# Altium footprint library COMM_SCHPCB.PcbLib: 125 footprints (part 7 of 8)
Each footprint in its own frame and in the unit in brackets; x right, y up, seen from the top. Pads: shape width x height; smd on the part's side, far side on the other; paste and mask are expansions set on the pad; w line width, h text height; cw(c..) or ccw(c..) is an arc to the next point about the centre after c.
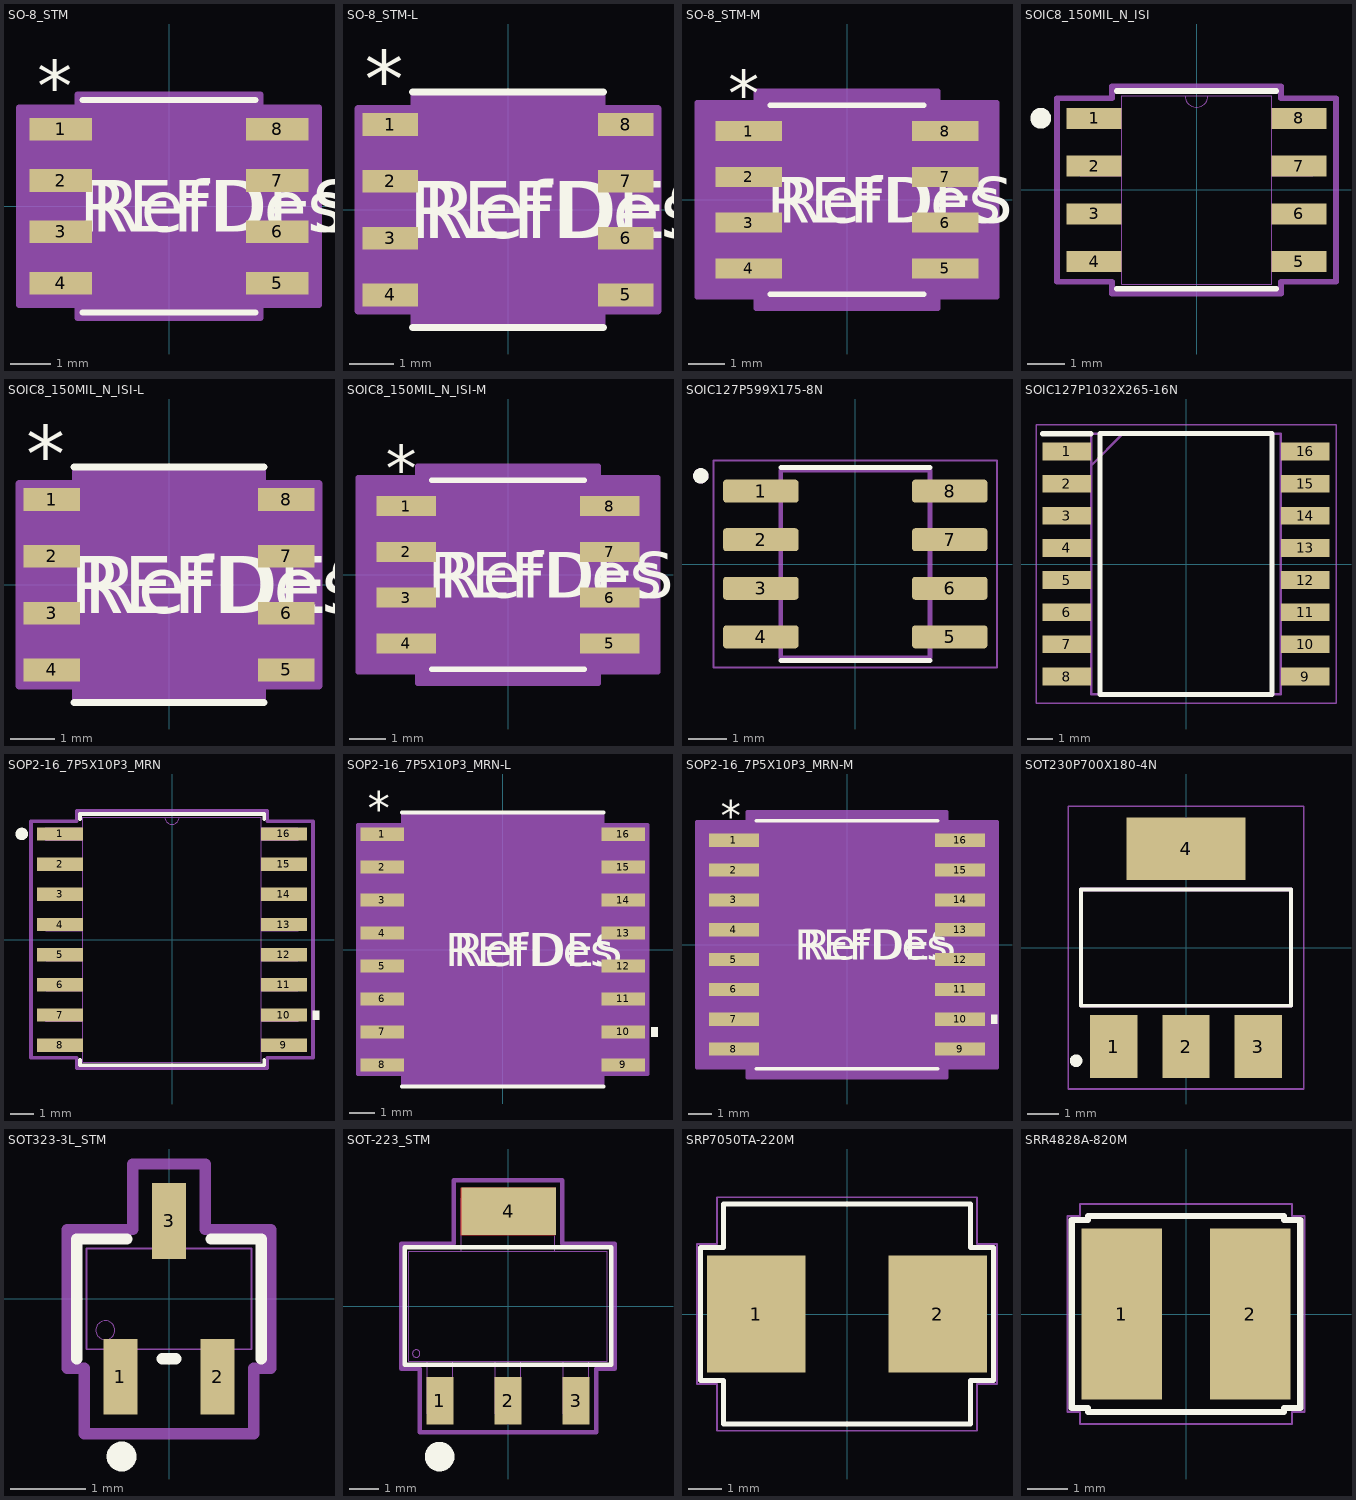
[diagram p6: the footprints below, top view; thin cyan lines are the x and y axes]

## SO-8_STM [mil]
pads (8):
  rect 61x22 smd paste+0 mask+0: 1(-105.5,75) 2(-105.5,25) 3(-105.5,-25) 4(-105.5,-75) 5(105.5,-75) 6(105.5,-25) 7(105.5,25) 8(105.5,75)
Top Overlay:
  lines w6: -84,-103.5 84,-103.5 ; -84,103.5 84,103.5
  text "RefDes" at -75,-25 h50
  text "*" at -128,92 h50
  text "REFDES" at -87.5,-25 h50
Mechanical 13:
  lines w0: -12,98.5 ccw(c0,98.5) 12,98.5
  lines w1: -122,-85 -79,-85 -79,-65 -122,-65 -122,-85 ; -122,-35 -79,-35 -79,-15 -122,-15 -122,-35 ; -122,15 -79,15 -79,35 -122,35 -122,15 ; -122,65 -79,65 -79,85 -122,85 -122,65 ; -79,-98.5 -79,98.5 79,98.5 79,-98.5 -79,-98.5 ; 79,-85 122,-85 122,-65 79,-65 79,-85 ; 79,-35 122,-35 122,-15 79,-15 79,-35 ; 79,15 122,15 122,35 79,35 79,15 ; 79,65 122,65 122,85 79,85 79,65
  text "RefDes2" at -87.5,-25 h50
  text "*" at -76.5,45.5 h50
Mechanical 15:
  region: -89,-96 -146,-96 -146,96 -89,96 -89,108.5 89,108.5 89,96 146,96 146,-96 89,-96 89,-108.5 -89,-108.5
  lines w6: -146,-96 -89,-96 -89,-108.5 89,-108.5 89,-96 146,-96 146,96 89,96 89,108.5 -89,108.5 -89,96 -146,96 -146,-96
3D body "SO-8_STM.step": height 69.09, standoff 0, extent -122.01,-98.5 122.01,98.5

## SO-8_STM-L [mil]
pads (8):
  rect 49x20 smd paste+0 mask+0: 1(-103.5,75) 2(-103.5,25) 3(-103.5,-25) 4(-103.5,-75) 5(103.5,-75) 6(103.5,-25) 7(103.5,25) 8(103.5,75)
Top Overlay:
  lines w6: -84,-103.5 84,-103.5 ; -84,103.5 84,103.5
  text "RefDes" at -75,-25 h50
  text "*" at -126,90 h50
  text "REFDES" at -87.5,-25 h50
Mechanical 13:
  lines w0: -12,98.5 ccw(c0,98.5) 12,98.5
  lines w1: -122,-85 -79,-85 -79,-65 -122,-65 -122,-85 ; -122,-35 -79,-35 -79,-15 -122,-15 -122,-35 ; -122,15 -79,15 -79,35 -122,35 -122,15 ; -122,65 -79,65 -79,85 -122,85 -122,65 ; -79,-98.5 -79,98.5 79,98.5 79,-98.5 -79,-98.5 ; 79,-85 122,-85 122,-65 79,-65 79,-85 ; 79,-35 122,-35 122,-15 79,-15 79,-35 ; 79,15 122,15 122,35 79,35 79,15 ; 79,65 122,65 122,85 79,85 79,65
  text "RefDes2" at -87.5,-25 h50
  text "*" at -76.5,45.5 h50
Mechanical 15:
  region: -83,-89 -132,-89 -132,89 -83,89 -83,102.5 83,102.5 83,89 132,89 132,-89 83,-89 83,-102.5 -83,-102.5
  lines w6: -132,-89 -83,-89 -83,-102.5 83,-102.5 83,-89 132,-89 132,89 83,89 83,102.5 -83,102.5 -83,89 -132,89 -132,-89
3D body "SO-8_STM.step": height 69.09, standoff 0, extent -122.01,-98.5 122.01,98.5

## SO-8_STM-M [mil]
pads (8):
  rect 73x22 smd paste+0 mask+0: 1(-107.5,75) 2(-107.5,25) 3(-107.5,-25) 4(-107.5,-75) 5(107.5,-75) 6(107.5,-25) 7(107.5,25) 8(107.5,75)
Top Overlay:
  lines w6: -84,-103.5 84,-103.5 ; -84,103.5 84,103.5
  text "RefDes" at -75,-25 h50
  text "*" at -130,92 h50
  text "REFDES" at -87.5,-25 h50
Mechanical 13:
  lines w0: -12,98.5 ccw(c0,98.5) 12,98.5
  lines w1: -122,-85 -79,-85 -79,-65 -122,-65 -122,-85 ; -122,-35 -79,-35 -79,-15 -122,-15 -122,-35 ; -122,15 -79,15 -79,35 -122,35 -122,15 ; -122,65 -79,65 -79,85 -122,85 -122,65 ; -79,-98.5 -79,98.5 79,98.5 79,-98.5 -79,-98.5 ; 79,-85 122,-85 122,-65 79,-65 79,-85 ; 79,-35 122,-35 122,-15 79,-15 79,-35 ; 79,15 122,15 122,35 79,35 79,15 ; 79,65 122,65 122,85 79,85 79,65
  text "RefDes2" at -87.5,-25 h50
  text "*" at -76.5,45.5 h50
Mechanical 15:
  region: -99,-106 -164,-106 -164,106 -99,106 -99,118.5 99,118.5 99,106 164,106 164,-106 99,-106 99,-118.5 -99,-118.5
  lines w6: -164,-106 -99,-106 -99,-118.5 99,-118.5 99,-106 164,-106 164,106 99,106 99,118.5 -99,118.5 -99,106 -164,106 -164,-106
3D body "SO-8_STM.step": height 69.09, standoff 0, extent -122.01,-98.5 122.01,98.5

## SOIC8_150MIL_N_ISI [mil]
pads (8):
  rect 57.5x22 smd paste+0 mask+0: 1(-107.25,75) 2(-107.25,25) 3(-107.25,-25) 4(-107.25,-75) 5(107.25,-75) 6(107.25,-25) 7(107.25,25) 8(107.25,75)
Top Overlay:
  circle w11.81: c-163,75 r5
  lines w6: -83.5,-103.5 83.5,-103.5 ; -83.5,103.5 83.5,103.5
Mechanical 13:
  lines w0: -12,98.5 ccw(c0,98.5) 12,98.5
  lines w1: -122,-85 -122,-65 -78.5,-65 -78.5,-85 -122,-85 ; -122,-35 -122,-15 -78.5,-15 -78.5,-35 -122,-35 ; -122,15 -122,35 -78.5,35 -78.5,15 -122,15 ; -122,65 -122,85 -78.5,85 -78.5,65 -122,65 ; -78.5,-98.5 78.5,-98.5 78.5,98.5 -78.5,98.5 -78.5,-98.5 ; 78.5,-85 78.5,-65 122,-65 122,-85 78.5,-85 ; 78.5,-35 78.5,-15 122,-15 122,-35 78.5,-35 ; 78.5,15 78.5,35 122,35 122,15 78.5,15 ; 78.5,65 78.5,85 122,85 122,65 78.5,65
Mechanical 15:
  lines w6: -146,-96 -146,96 -88.5,96 -88.5,108.5 88.5,108.5 88.5,96 146,96 146,-96 88.5,-96 88.5,-108.5 -88.5,-108.5 -88.5,-96 -146,-96
3D body "SOIC8_150MIL_N_ISI.step": height 69.09, standoff 0, extent -122.01,-98.5 122.01,98.5

## SOIC8_150MIL_N_ISI-L [mil]
pads (8):
  rect 49.5x20 smd paste+0 mask+0: 1(-103.25,75) 2(-103.25,25) 3(-103.25,-25) 4(-103.25,-75) 5(103.25,-75) 6(103.25,-25) 7(103.25,25) 8(103.25,75)
Top Overlay:
  lines w6: -83.5,-103.5 83.5,-103.5 ; -83.5,103.5 83.5,103.5
  text "RefDes" at -75,-25 h50
  text "*" at -125.75,90 h50
  text "REFDES" at -87.5,-25 h50
Mechanical 13:
  lines w0: -12,98.5 ccw(c0,98.5) 12,98.5
  lines w1: -122,-85 -78.5,-85 -78.5,-65 -122,-65 -122,-85 ; -122,-35 -78.5,-35 -78.5,-15 -122,-15 -122,-35 ; -122,15 -78.5,15 -78.5,35 -122,35 -122,15 ; -122,65 -78.5,65 -78.5,85 -122,85 -122,65 ; -78.5,-98.5 -78.5,98.5 78.5,98.5 78.5,-98.5 -78.5,-98.5 ; 78.5,-85 122,-85 122,-65 78.5,-65 78.5,-85 ; 78.5,-35 122,-35 122,-15 78.5,-15 78.5,-35 ; 78.5,15 122,15 122,35 78.5,35 78.5,15 ; 78.5,65 122,65 122,85 78.5,85 78.5,65
  text "RefDes2" at -87.5,-25 h50
  text "*" at -76,45.5 h50
Mechanical 15:
  region: -82.5,-89 -132,-89 -132,89 -82.5,89 -82.5,102.5 82.5,102.5 82.5,89 132,89 132,-89 82.5,-89 82.5,-102.5 -82.5,-102.5
  lines w6: -132,-89 -82.5,-89 -82.5,-102.5 82.5,-102.5 82.5,-89 132,-89 132,89 82.5,89 82.5,102.5 -82.5,102.5 -82.5,89 -132,89 -132,-89
3D body "SOIC8_150MIL_N_ISI.step": height 69.09, standoff 0, extent -122.01,-98.5 122.01,98.5

## SOIC8_150MIL_N_ISI-M [mil]
pads (8):
  rect 65.5x22 smd paste+0 mask+0: 1(-111.25,75) 2(-111.25,25) 3(-111.25,-25) 4(-111.25,-75) 5(111.25,-75) 6(111.25,-25) 7(111.25,25) 8(111.25,75)
Top Overlay:
  lines w6: -83.5,-103.5 83.5,-103.5 ; -83.5,103.5 83.5,103.5
  text "REFDES" at -87.5,-25 h50
  text "*" at -133.75,92 h50
  text "RefDes" at -75,-25 h50
Mechanical 13:
  lines w0: -12,98.5 ccw(c0,98.5) 12,98.5
  lines w1: -122,-85 -122,-65 -78.5,-65 -78.5,-85 -122,-85 ; -122,-35 -122,-15 -78.5,-15 -78.5,-35 -122,-35 ; -122,15 -122,35 -78.5,35 -78.5,15 -122,15 ; -122,65 -122,85 -78.5,85 -78.5,65 -122,65 ; -78.5,-98.5 78.5,-98.5 78.5,98.5 -78.5,98.5 -78.5,-98.5 ; 78.5,-85 78.5,-65 122,-65 122,-85 78.5,-85 ; 78.5,-35 78.5,-15 122,-15 122,-35 78.5,-35 ; 78.5,15 78.5,35 122,35 122,15 78.5,15 ; 78.5,65 78.5,85 122,85 122,65 78.5,65
  text "*" at -76,45.5 h50
  text "RefDes2" at -87.5,-25 h50
Mechanical 15:
  region: -98.5,-106 -164,-106 -164,106 -98.5,106 -98.5,118.5 98.5,118.5 98.5,106 164,106 164,-106 98.5,-106 98.5,-118.5 -98.5,-118.5
  lines w6: -164,-106 -164,106 -98.5,106 -98.5,118.5 98.5,118.5 98.5,106 164,106 164,-106 98.5,-106 98.5,-118.5 -98.5,-118.5 -98.5,-106 -164,-106
3D body "SOIC8_150MIL_N_ISI.step": height 69.09, standoff 0, extent -122.01,-98.5 122.01,98.5

## SOIC127P599X175-8N [mm] "SN65HVD230DR"
pads (8):
  rrect25% 1.97x0.6 smd: 1(-2.47,1.905) 2(-2.47,0.635) 3(-2.47,-0.635) 4(-2.47,-1.905) 5(2.47,-1.905) 6(2.47,-0.635) 7(2.47,0.635) 8(2.47,1.905)
Top Overlay:
  circle w0.2: c-4.04,2.305 r0.1
  lines w0.127: -1.95,-2.525 1.95,-2.525 ; -1.95,2.525 1.95,2.525
Mechanical 13:
  circle w0.2: c-4.04,2.305 r0.1
  lines w0.127: -1.95,-2.452 -1.95,2.452 1.95,2.452 1.95,-2.452 -1.95,-2.452
Mechanical 15:
  lines w0.05: -3.705,-2.702 -3.705,2.702 3.705,2.702 3.705,-2.702 -3.705,-2.702
3D body "step_temp.STEP": height 1.75, standoff 0, extent -3,-2.45 3,2.45

## SOIC127P1032X265-16N [mm]
pads (16):
  rect 1.925x0.7 smd: 1(-4.712,4.445) 2(-4.712,3.175) 3(-4.712,1.905) 4(-4.712,0.635) 5(-4.712,-0.635) 6(-4.712,-1.905) 7(-4.712,-3.175) 8(-4.712,-4.445) 9(4.712,-4.445) 10(4.712,-3.175) 11(4.712,-1.905) 12(4.712,-0.635) 13(4.712,0.635) 14(4.712,1.905) 15(4.712,3.175) 16(4.712,4.445)
Top Overlay:
  lines w0.2: -5.675,5.145 -3.75,5.145 ; -3.4,-5.15 -3.4,5.15 3.4,5.15 3.4,-5.15 -3.4,-5.15
Mechanical 15:
  lines w0.1: -3.75,3.88 -2.48,5.15 ; -3.75,-5.15 -3.75,5.15 3.75,5.15 3.75,-5.15 -3.75,-5.15
Mechanical 20:
  lines w0.05: -5.925,-5.5 -5.925,5.5 5.925,5.5 5.925,-5.5 -5.925,-5.5

## SOP2-16_7P5X10P3_MRN [mil]
pads (16):
  rect 76x22 smd paste+0 mask+0: 1(-185.5,175) 2(-185.5,125) 3(-185.5,75) 4(-185.5,25) 5(-185.5,-25) 6(-185.5,-75) 7(-185.5,-125) 8(-185.5,-175) 9(185.5,-175) 10(185.5,-125) 11(185.5,-75) 12(185.5,-25) 13(185.5,25) 14(185.5,75) 15(185.5,125) 16(185.5,175)
Top Overlay:
  circle w11.81: c-249,175 r4.47
  region: 233.5,-117.5 243.5,-117.5 243.5,-132.5 233.5,-132.5
  lines w6: -152.5,-199.1 -152.5,-208 152.5,-208 152.5,-199.1 ; -152.5,199.1 -152.5,208 152.5,208 152.5,199.1
Mechanical 13:
  lines w0: -12,203 ccw(c0,203) 12,203
  lines w1: -209.5,-185 -147.5,-185 -147.5,-165 -209.5,-165 -209.5,-185 ; -209.5,-135 -147.5,-135 -147.5,-115 -209.5,-115 -209.5,-135 ; -209.5,-85 -147.5,-85 -147.5,-65 -209.5,-65 -209.5,-85 ; -209.5,-35 -147.5,-35 -147.5,-15 -209.5,-15 -209.5,-35 ; -209.5,15 -147.5,15 -147.5,35 -209.5,35 -209.5,15 ; -209.5,65 -147.5,65 -147.5,85 -209.5,85 -209.5,65 ; -209.5,115 -147.5,115 -147.5,135 -209.5,135 -209.5,115 ; -209.5,165 -147.5,165 -147.5,185 -209.5,185 -209.5,165 ; -147.5,-203 -147.5,203 147.5,203 147.5,-203 -147.5,-203 ; 147.5,-185 209.5,-185 209.5,-165 147.5,-165 147.5,-185 ; 147.5,-135 209.5,-135 209.5,-115 147.5,-115 147.5,-135 ; 147.5,-85 209.5,-85 209.5,-65 147.5,-65 147.5,-85 ; 147.5,-35 209.5,-35 209.5,-15 147.5,-15 147.5,-35 ; 147.5,15 209.5,15 209.5,35 147.5,35 147.5,15 ; 147.5,65 209.5,65 209.5,85 147.5,85 147.5,65 ; 147.5,115 209.5,115 209.5,135 147.5,135 147.5,115 ; 147.5,165 209.5,165 209.5,185 147.5,185 147.5,165
Mechanical 15:
  lines w6: -233.5,-196 -157.5,-196 -157.5,-213 157.5,-213 157.5,-196 233.5,-196 233.5,196 157.5,196 157.5,213 -157.5,213 -157.5,196 -233.5,196 -233.5,-196
3D body "SOP2-16_7P5X10P3_MRN.step": height 108.11, standoff 0, extent -209.49,-202.99 209.49,202.99

## SOP2-16_7P5X10P3_MRN-L [mil]
pads (16):
  rect 66x20 smd paste+0 mask+0: 1(-182.5,175) 2(-182.5,125) 3(-182.5,75) 4(-182.5,25) 5(-182.5,-25) 6(-182.5,-75) 7(-182.5,-125) 8(-182.5,-175) 9(182.5,-175) 10(182.5,-125) 11(182.5,-75) 12(182.5,-25) 13(182.5,25) 14(182.5,75) 15(182.5,125) 16(182.5,175)
Top Overlay:
  region: 225.5,-117.5 235.5,-117.5 235.5,-132.5 225.5,-132.5
  lines w6: -152.5,-208 152.5,-208 ; -152.5,208 152.5,208
  text "RefDes" at -75,-25 h50
  text "*" at -205,190 h50
  text "REFDES" at -87.5,-25 h50
Mechanical 13:
  lines w0: -12,203 ccw(c0,203) 12,203
  lines w1: -209.5,-185 -147.5,-185 -147.5,-165 -209.5,-165 -209.5,-185 ; -209.5,-135 -147.5,-135 -147.5,-115 -209.5,-115 -209.5,-135 ; -209.5,-85 -147.5,-85 -147.5,-65 -209.5,-65 -209.5,-85 ; -209.5,-35 -147.5,-35 -147.5,-15 -209.5,-15 -209.5,-35 ; -209.5,15 -147.5,15 -147.5,35 -209.5,35 -209.5,15 ; -209.5,65 -147.5,65 -147.5,85 -209.5,85 -209.5,65 ; -209.5,115 -147.5,115 -147.5,135 -209.5,135 -209.5,115 ; -209.5,165 -147.5,165 -147.5,185 -209.5,185 -209.5,165 ; -147.5,-203 -147.5,203 147.5,203 147.5,-203 -147.5,-203 ; 147.5,-185 209.5,-185 209.5,-165 147.5,-165 147.5,-185 ; 147.5,-135 209.5,-135 209.5,-115 147.5,-115 147.5,-135 ; 147.5,-85 209.5,-85 209.5,-65 147.5,-65 147.5,-85 ; 147.5,-35 209.5,-35 209.5,-15 147.5,-15 147.5,-35 ; 147.5,15 209.5,15 209.5,35 147.5,35 147.5,15 ; 147.5,65 209.5,65 209.5,85 147.5,85 147.5,65 ; 147.5,115 209.5,115 209.5,135 147.5,135 147.5,115 ; 147.5,165 209.5,165 209.5,185 147.5,185 147.5,165
  text "RefDes2" at -87.5,-25 h50
  text "*" at -145,150 h50
Mechanical 15:
  region: -151.5,-189 -219.5,-189 -219.5,189 -151.5,189 -151.5,207 151.5,207 151.5,189 219.5,189 219.5,-189 151.5,-189 151.5,-207 -151.5,-207
  lines w6: -219.5,-189 -151.5,-189 -151.5,-207 151.5,-207 151.5,-189 219.5,-189 219.5,189 151.5,189 151.5,207 -151.5,207 -151.5,189 -219.5,189 -219.5,-189
3D body "SOP2-16_7P5X10P3_MRN.step": height 108.11, standoff 0, extent -209.49,-202.99 209.49,202.99

## SOP2-16_7P5X10P3_MRN-M [mil]
pads (16):
  rect 84x22 smd paste+0 mask+0: 1(-189.5,175) 2(-189.5,125) 3(-189.5,75) 4(-189.5,25) 5(-189.5,-25) 6(-189.5,-75) 7(-189.5,-125) 8(-189.5,-175) 9(189.5,-175) 10(189.5,-125) 11(189.5,-75) 12(189.5,-25) 13(189.5,25) 14(189.5,75) 15(189.5,125) 16(189.5,175)
Top Overlay:
  region: 241.5,-117.5 251.5,-117.5 251.5,-132.5 241.5,-132.5
  lines w6: -152.5,-208 152.5,-208 ; -152.5,208 152.5,208
  text "REFDES" at -87.5,-25 h50
  text "*" at -212,192 h50
  text "RefDes" at -75,-25 h50
Mechanical 13:
  lines w0: -12,203 ccw(c0,203) 12,203
  lines w1: -209.5,-185 -209.5,-165 -147.5,-165 -147.5,-185 -209.5,-185 ; -209.5,-135 -209.5,-115 -147.5,-115 -147.5,-135 -209.5,-135 ; -209.5,-85 -209.5,-65 -147.5,-65 -147.5,-85 -209.5,-85 ; -209.5,-35 -209.5,-15 -147.5,-15 -147.5,-35 -209.5,-35 ; -209.5,15 -209.5,35 -147.5,35 -147.5,15 -209.5,15 ; -209.5,65 -209.5,85 -147.5,85 -147.5,65 -209.5,65 ; -209.5,115 -209.5,135 -147.5,135 -147.5,115 -209.5,115 ; -209.5,165 -209.5,185 -147.5,185 -147.5,165 -209.5,165 ; -147.5,-203 147.5,-203 147.5,203 -147.5,203 -147.5,-203 ; 147.5,-185 147.5,-165 209.5,-165 209.5,-185 147.5,-185 ; 147.5,-135 147.5,-115 209.5,-115 209.5,-135 147.5,-135 ; 147.5,-85 147.5,-65 209.5,-65 209.5,-85 147.5,-85 ; 147.5,-35 147.5,-15 209.5,-15 209.5,-35 147.5,-35 ; 147.5,15 147.5,35 209.5,35 209.5,15 147.5,15 ; 147.5,65 147.5,85 209.5,85 209.5,65 147.5,65 ; 147.5,115 147.5,135 209.5,135 209.5,115 147.5,115 ; 147.5,165 147.5,185 209.5,185 209.5,165 147.5,165
  text "*" at -145,150 h50
  text "RefDes2" at -87.5,-25 h50
Mechanical 15:
  region: -167.5,-206 -251.5,-206 -251.5,206 -167.5,206 -167.5,223 167.5,223 167.5,206 251.5,206 251.5,-206 167.5,-206 167.5,-223 -167.5,-223
  lines w6: -251.5,-206 -251.5,206 -167.5,206 -167.5,223 167.5,223 167.5,206 251.5,206 251.5,-206 167.5,-206 167.5,-223 -167.5,-223 -167.5,-206 -251.5,-206
3D body "SOP2-16_7P5X10P3_MRN.step": height 108.11, standoff 0, extent -209.49,-202.99 209.49,202.99

## SOT230P700X180-4N [mm]
pads (4):
  rect 1.5x2 smd: 1(-2.3,-3.15) 2(0,-3.15) 3(2.3,-3.15)
  rect 3.8x2 smd: 4(0,3.15)
Top Overlay:
  circle w0.2: c-3.5,-3.6 r0.1
  lines w0.127: -3.35,-1.85 3.35,-1.85 3.35,1.85 -3.35,1.85 -3.35,-1.85
Mechanical 13:
  lines w0.127: -3.35,-1.85 3.35,-1.85 3.35,1.85 -3.35,1.85 -3.35,-1.85
Mechanical 15:
  lines w0.05: -3.75,-4.5 -3.75,4.5 3.75,4.5 3.75,-4.5 -3.75,-4.5
3D body "step_temp.STEP": height 1.8, standoff 0, extent -3.25,-3.499 3.25,3.499

## SOT323-3L_STM [mil]
pads (3):
  rect 18x40 smd paste+0 mask+0: 1(-25.59,-41) 2(25.59,-41) 3(0,41)
Top Overlay:
  circle w7.87: c-25,-83 r3.94
  lines w6: -48.5,-31.5 -48.5,31.5 -22.1,31.5 ; -3.49,-31.5 3.49,-31.5 ; 22.1,31.5 48.5,31.5 48.5,-31.5
Mechanical 13:
  circle w0: c-33.5,-16.5 r5
  lines w1: -43.5,-26.5 43.5,-26.5 43.5,26.5 -43.5,26.5 -43.5,-26.5 ; -33.59,-47 -33.59,-26.5 -17.59,-26.5 -17.59,-47 -33.59,-47 ; -8,26.5 8,26.5 8,47 -8,47 -8,26.5 ; 17.59,-47 17.59,-26.5 33.59,-26.5 33.59,-47 17.59,-47
Mechanical 15:
  lines w6: -53.5,-36.5 -53.5,36.5 -19,36.5 -19,71 19,71 19,36.5 53.5,36.5 53.5,-36.5 44.59,-36.5 44.59,-71 -44.59,-71 -44.59,-36.5 -53.5,-36.5
3D body "SOT323-3L_STM.step": height 43.11, standoff 0, extent -43.5,-47.01 43.5,47.01

## SOT-223_STM [mil]
pads (4):
  rect 36x63 smd paste+0: 1(-90.55,-126) 2(0,-126) 3(90.55,-126)
  rect 125.98x62.99 smd paste+0: 4(1,126)
Top Layer:
  region: 63,94.5 63,157.5 -63,157.5 -63,94.5
Top Overlay:
  circle w19.68: c-91,-200 r9.84
  lines w6: -137,-78 137,-78 137,78 -137,78 -137,-78
Mechanical 13:
  circle w0: c-122,-63 r5
  lines w1: -132,-73 132,-73 132,73 -132,73 -132,-73 ; -107.55,-143.5 -107.55,-73 -73.55,-73 -73.55,-143.5 -107.55,-143.5 ; -62,73 62,73 62,143.5 -62,143.5 -62,73 ; -17,-143.5 -17,-73 17,-73 17,-143.5 -17,-143.5 ; 73.55,-143.5 73.55,-73 107.55,-73 107.55,-143.5 73.55,-143.5
Mechanical 15:
  lines w6: -142,-83 -142,83 -72,83 -72,167.5 72,167.5 72,83 142,83 142,-83 117.55,-83 117.55,-167.5 -117.55,-167.5 -117.55,-83 -142,-83
3D body "SOT-223_STM.step": height 71.1, standoff 0, extent -132.01,-143.5 132.01,143.5

## SRP7050TA-220M [mm]
pads (2):
  rect 2.95x3.5 smd: 1(-2.725,0) 2(2.725,0)
Top Overlay:
  lines w0.15: -4.4,-2 -4.4,2 -3.7,2 -3.7,3.3 3.7,3.3 3.7,2 4.4,2 4.4,-2 3.7,-2 3.7,-3.3 -3.7,-3.3 -3.7,-2 -4.4,-2
Top Courtyard:
  lines w0.05: -4.5,-2.1 -3.9,-2.1 -3.9,-3.5 3.9,-3.5 3.9,-2.1 4.5,-2.1 4.5,2.1 3.9,2.1 3.9,3.5 -3.9,3.5 -3.9,2.1 -4.5,2.1 -4.5,1.8 -4.5,-2.1
3D body "SRP7050TA.stp": height 4.6, standoff -0.35, extent -3.65,-3.3 3.65,3.3

## SRR4828A-820M [mm] "L-SMD-M-4.8x4.8x2.8mm"
pads (2):
  rect 1.98x4.2 smd: 1(-1.575,0) 2(1.575,0)
Top Overlay:
  lines w0.15: -2.8,-2.3 -2.8,2.3 -2.4,2.3 -2.4,2.4 -2.3,2.4 2.4,2.4 2.4,2.3 2.6,2.3 2.7,2.3 2.8,2.3 2.8,-2.3 2.5,-2.3 2.4,-2.3 2.4,-2.4 -2.4,-2.4 -2.4,-2.3 -2.8,-2.3
Top Courtyard:
  lines w0.05: -2.9,2.1 -2.9,2.4 -2.6,2.4 -2.6,2.7 2.6,2.7 2.6,2.4 2.9,2.4 2.9,-2.4 2.6,-2.4 2.6,-2.7 -2.6,-2.7 -2.6,-2.6 -2.6,-2.4 -2.9,-2.4 -2.9,2.2
3D body "SRR4828A (1).stp": height 2.8, standoff 0.04, extent -2.4,-2.41 2.4,2.41